# Altium footprint library INF-PG-TSDSON-8_FL_V.PcbLib: 1 footprints
Each footprint in its own frame and in the unit in brackets; x right, y up, seen from the top. Pads: shape width x height; smd on the part's side, far side on the other; paste and mask are expansions set on the pad; w line width, h text height; cw(c..) or ccw(c..) is an arc to the next point about the centre after c.
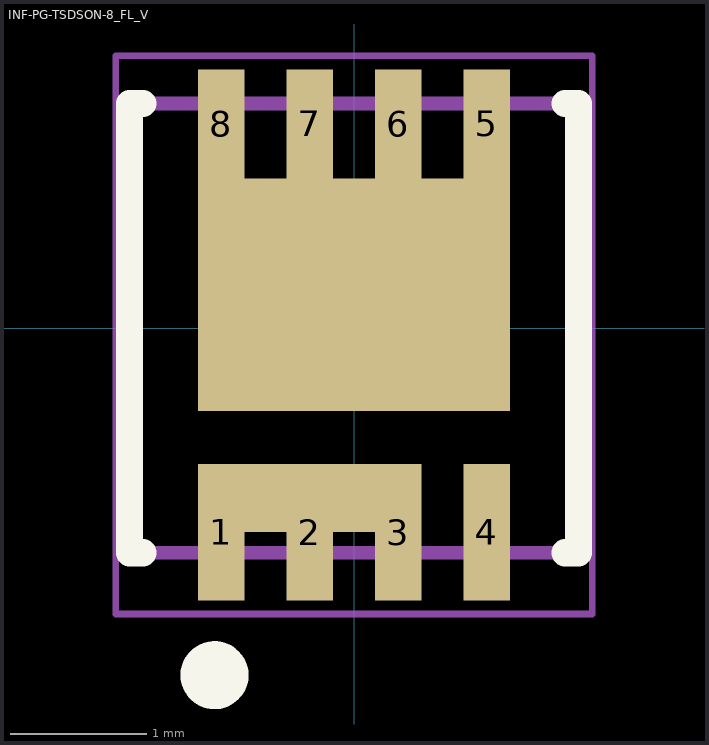
[diagram p0: the footprint, top view; thin cyan lines are the x and y axes]

## INF-PG-TSDSON-8_FL_V [mm] "TSDSON, 8-Leads, Body 3.3x3.3mm, Pitch 0.65mm"
height 1.1
pads (10):
  rect 0.34x1 smd mask+0.102: 1(-0.975,-1.5) 2(-0.325,-1.5) 4(0.975,-1.5)
  rect 0.34x1 smd: 3(0.325,-1.5)
  rect 0.34x0.8 smd mask+0.102: 5(0.975,1.5) 6(0.325,1.5) 7(-0.325,1.5) 8(-0.975,1.5)
  rect 1.64x0.5 smd mask+0.102: ""(-0.325,-1.25)
  rect 2.29x1.71 smd mask+0.102: ""(0,0.245)
Top Overlay:
  circle w0.25: c-1.025,-2.55 r0.125
  lines w0.2: -1.55,-1.65 -1.65,-1.65 -1.65,1.65 -1.55,1.65 ; 1.55,-1.65 1.65,-1.65 1.65,1.65 1.55,1.65
Mechanical 13:
  lines w0.1: -1.65,-1.65 1.65,-1.65 1.65,1.65 -1.65,1.65 -1.65,-1.65
Mechanical 15:
  lines w0.05: -1.75,-2.1 1.75,-2.1 1.75,2 -1.75,2 -1.75,-2.1
  lines w0.1: -0.5,0 0.5,0 ; 0,-0.5 0,0.5
3D body: height 1.1, standoff 0, extent -1.65,-1.65 1.65,1.65